# Altium footprint library Connector_USB.PcbLib: 53 footprints (part 2 of 4)
Each footprint in its own frame and in the unit in brackets; x right, y up, seen from the top. Pads: shape width x height; smd on the part's side, far side on the other; paste and mask are expansions set on the pad; w line width, h text height; cw(c..) or ccw(c..) is an arc to the next point about the centre after c.
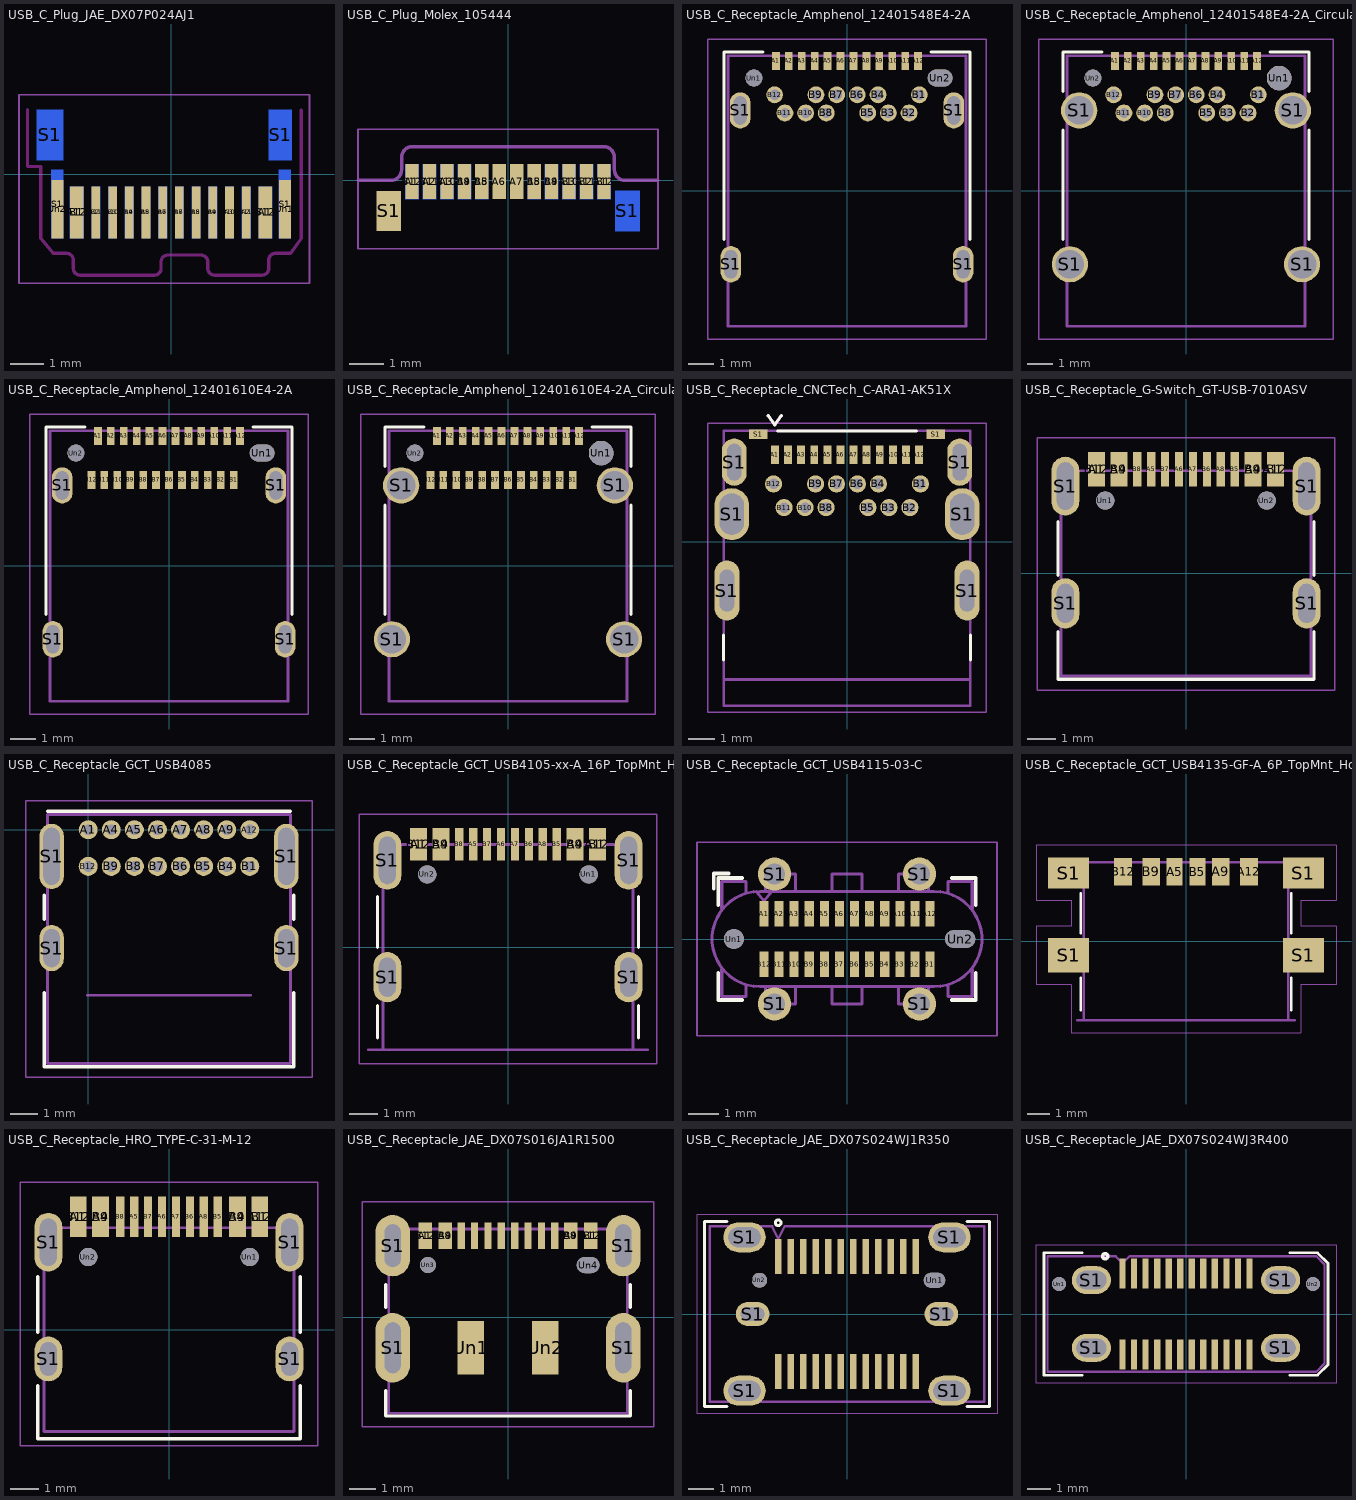
[diagram p1: the footprints below, top view; thin cyan lines are the x and y axes]

## USB_C_Plug_JAE_DX07P024AJ1 [mm]
pads (30):
  rect 0.41x1.55 smd: A1(2.825,-1.148) A12(-2.825,-1.148)
  rect 0.26x1.55 smd: A2(2.25,-1.148) A3(1.75,-1.148) A4(1.25,-1.148) A5(0.75,-1.148) A6(0.25,-1.148) A7(-0.25,-1.148) A8(-0.75,-1.148) A9(-1.25,-1.148) A10(-1.75,-1.148) A11(-2.25,-1.148)
  rect 0.41x1.55 smd far side: B1(-2.825,-1.148) B12(2.825,-1.148)
  rect 0.26x1.55 smd far side: B2(-2.25,-1.148) B3(-1.75,-1.148) B4(-1.25,-1.148) B5(-0.75,-1.148) B6(-0.25,-1.148) B7(0.25,-1.148) B8(0.75,-1.148) B9(1.25,-1.148) B10(1.75,-1.148) B11(2.25,-1.148)
  rect 0.8x1.5 smd far side: S1(-3.625,1.172)
  rect 0.36x2.05 smd far side: S1(-3.405,-0.897) S1(3.405,-0.897)
  rect 0.7x1.5 smd far side: S1(3.27,1.172)
  rect 0.36x1.75 smd: Un1(3.405,-1.048) Un2(-3.405,-1.048)
Edge.Cuts:
  lines w0.1: -4.3,1.93 -4.3,0.228 -3.9,0.228 -3.9,-1.923 -3.53,-2.372 -3.125,-2.372 cw(c-3.125,-2.573) -2.925,-2.573 -2.925,-2.822 ccw(c-2.725,-2.822) -2.725,-3.023 -0.5,-3.023 ccw(c-0.5,-2.822) -0.3,-2.823 -0.3,-2.622 cw(c-0.1,-2.623) -0.1,-2.422 0.9,-2.422 cw(c0.9,-2.623) 1.1,-2.623 1.1,-2.822 ccw(c1.3,-2.822) 1.3,-3.023 2.725,-3.023 ccw(c2.725,-2.822) 2.925,-2.823 2.925,-2.572 cw(c3.125,-2.573) 3.125,-2.372 3.575,-2.372 3.9,-1.923 3.9,1.917
Dwgs.User:
  text "PCB Edge" at -1.748,-3.456 h0.5
B.CrtYd:
  lines w0.05: -4.553,-3.27 -4.553,2.38 4.147,2.38 4.147,-3.27 -4.553,-3.27
F.CrtYd:
  lines w0.05: -4.553,-3.27 4.147,-3.27 4.147,2.38 -4.553,2.38 -4.553,-3.27
F.Fab:
  text "'.Designator'" at -3.023,-1.17 h0.75

## USB_C_Plug_Molex_105444 [mm]
pads (24):
  rect 0.38x1 smd: A1(-2.75,-0.04) A2(-2.25,-0.04) A3(-1.75,-0.04) A4(-1.25,-0.04) A5(-0.75,-0.04) A6(-0.25,-0.04) A7(0.25,-0.04) A8(0.75,-0.04) A9(1.25,-0.04) A10(1.75,-0.04) A11(2.25,-0.04) A12(2.75,-0.04)
  rect 0.38x1 smd far side: B1(2.75,-0.04) B2(2.25,-0.04) B3(1.75,-0.04) B4(1.25,-0.04) B5(0.75,-0.04) B8(-0.75,-0.04) B9(-1.25,-0.04) B10(-1.75,-0.04) B11(-2.25,-0.04) B12(-2.75,-0.04)
  rect 0.7x1.15 smd: S1(-3.42,-0.88)
  rect 0.7x1.15 smd far side: S1(3.42,-0.88)
Dwgs.User:
  text "PCB Edge" at -1.728,0.547 h0.5
F.CrtYd:
  lines w0.05: -4.3,-1.96 4.3,-1.96 4.3,1.46 -4.3,1.46 -4.3,-1.96
F.Fab:
  lines w0.1: -4.3,0 -3.35,0 ccw(c-3.35,0.3) -3.05,0.3 -3.05,0.66 cw(c-2.75,0.66) -2.75,0.96 2.75,0.96 cw(c2.75,0.66) 3.05,0.66 3.05,0.3 ccw(c3.35,0.3) 3.35,0 4.3,0
  text "'.Designator'" at -3.997,-2.83 h1

## USB_C_Receptacle_Amphenol_12401548E4-2A [mm]
pads (30):
  rect 0.3x0.7 smd: A1(-2.75,5.02) A2(-2.25,5.02) A3(-1.75,5.02) A4(-1.25,5.02) A5(-0.75,5.02) A6(-0.25,5.02) A7(0.25,5.02) A8(0.75,5.02) A9(1.25,5.02) A10(1.75,5.02) A11(2.25,5.02) A12(2.75,5.02)
  round 0.65 hole 0.4: B1(2.8,3.71) B2(2.4,3.01) B3(1.6,3.01) B4(1.2,3.71) B5(0.8,3.01) B6(0.4,3.71) B7(-0.4,3.71) B8(-0.8,3.01) B9(-1.2,3.71) B10(-1.6,3.01) B11(-2.4,3.01) B12(-2.8,3.71)
  rrect100% 0.8x1.4 hole 1.1 slot 0.5 at 0 deg: S1(-4.49,-2.84) S1(-4.13,3.11) S1(4.13,3.11) S1(4.49,-2.84)
  round 0.65 hole 0.65: Un1(-3.6,4.36)
  rrect100% 0.95x0.65 hole 0.65 slot 0.95 at 0 deg: Un2(3.6,4.36)
F.SilkS:
  lines w0.12: -4.75,-1.89 -4.75,5.37 -3.25,5.37 ; 3.25,5.37 4.75,5.37 4.75,-1.89
F.CrtYd:
  lines w0.05: -5.39,-5.73 5.39,-5.73 5.39,5.87 -5.39,5.87 -5.39,-5.73
F.Fab:
  lines w0.1: -4.6,-5.23 4.6,-5.23 4.6,5.22 -4.6,5.22 -4.6,-5.23
  text "'.Designator'" at -3.997,-0.79 h1

## USB_C_Receptacle_Amphenol_12401548E4-2A_CircularHoles [mm]
pads (30):
  rect 0.3x0.7 smd: A1(-2.75,5.02) A2(-2.25,5.02) A3(-1.75,5.02) A4(-1.25,5.02) A5(-0.75,5.02) A6(-0.25,5.02) A7(0.25,5.02) A8(0.75,5.02) A9(1.25,5.02) A10(1.75,5.02) A11(2.25,5.02) A12(2.75,5.02)
  round 0.65 hole 0.4: B1(2.8,3.71) B2(2.4,3.01) B3(1.6,3.01) B4(1.2,3.71) B5(0.8,3.01) B6(0.4,3.71) B7(-0.4,3.71) B8(-0.8,3.01) B9(-1.2,3.71) B10(-1.6,3.01) B11(-2.4,3.01) B12(-2.8,3.71)
  round 1.4 hole 1.1: S1(-4.49,-2.84) S1(-4.13,3.11) S1(4.13,3.11) S1(4.49,-2.84)
  round 0.95 hole 0.95: Un1(3.6,4.36)
  round 0.65 hole 0.65: Un2(-3.6,4.36)
F.SilkS:
  lines w0.12: -4.75,-1.89 -4.75,2.35 ; -4.75,3.85 -4.75,5.37 -3.25,5.37 ; 3.25,5.37 4.75,5.37 4.75,3.85 ; 4.75,-1.89 4.75,2.35
F.CrtYd:
  lines w0.05: -5.69,-5.73 5.69,-5.73 5.69,5.87 -5.69,5.87 -5.69,-5.73
F.Fab:
  lines w0.1: -4.6,-5.23 -4.6,5.22 4.6,5.22 4.6,-5.23 -4.6,-5.23
  text "'.Designator'" at -3.997,-0.79 h1

## USB_C_Receptacle_Amphenol_12401610E4-2A [mm]
pads (30):
  rect 0.3x0.7 smd: A1(-2.75,5.02) A2(-2.25,5.02) A3(-1.75,5.02) A4(-1.25,5.02) A5(-0.75,5.02) A6(-0.25,5.02) A7(0.25,5.02) A8(0.75,5.02) A9(1.25,5.02) A10(1.75,5.02) A11(2.25,5.02) A12(2.75,5.02) B1(2.5,3.32) B2(2,3.32) B3(1.5,3.32) B4(1,3.32) B5(0.5,3.32) B6(0,3.32) B7(-0.5,3.32) B8(-1,3.32) B9(-1.5,3.32) B10(-2,3.32) B11(-2.5,3.32) B12(-3,3.32)
  rrect100% 0.8x1.4 hole 1.1 slot 0.5 at 0 deg: S1(-4.49,-2.84) S1(-4.13,3.11) S1(4.13,3.11) S1(4.49,-2.84)
  rrect100% 0.95x0.65 hole 0.65 slot 0.95 at 0 deg: Un1(3.6,4.36)
  round 0.65 hole 0.65: Un2(-3.6,4.36)
F.SilkS:
  lines w0.12: -4.75,-1.89 -4.75,5.37 -3.25,5.37 ; 3.25,5.37 4.75,5.37 4.75,-1.89
F.CrtYd:
  lines w0.05: -5.39,-5.73 -5.39,5.87 5.39,5.87 5.39,-5.73 -5.39,-5.73
F.Fab:
  lines w0.1: -4.6,-5.23 -4.6,5.22 4.6,5.22 4.6,-5.23 -4.6,-5.23
  text "'.Designator'" at -3.997,-0.79 h1

## USB_C_Receptacle_Amphenol_12401610E4-2A_CircularHoles [mm]
pads (30):
  rect 0.3x0.7 smd: A1(-2.75,5.02) A2(-2.25,5.02) A3(-1.75,5.02) A4(-1.25,5.02) A5(-0.75,5.02) A6(-0.25,5.02) A7(0.25,5.02) A8(0.75,5.02) A9(1.25,5.02) A10(1.75,5.02) A11(2.25,5.02) A12(2.75,5.02) B1(2.5,3.32) B2(2,3.32) B3(1.5,3.32) B4(1,3.32) B5(0.5,3.32) B6(0,3.32) B7(-0.5,3.32) B8(-1,3.32) B9(-1.5,3.32) B10(-2,3.32) B11(-2.5,3.32) B12(-3,3.32)
  round 1.4 hole 1.1: S1(-4.49,-2.84) S1(-4.13,3.11) S1(4.13,3.11) S1(4.49,-2.84)
  round 0.95 hole 0.95: Un1(3.6,4.36)
  round 0.65 hole 0.65: Un2(-3.6,4.36)
F.SilkS:
  lines w0.12: -4.75,-1.89 -4.75,2.35 ; -4.75,3.85 -4.75,5.37 -3.25,5.37 ; 3.25,5.37 4.75,5.37 4.75,3.85 ; 4.75,-1.89 4.75,2.35
F.CrtYd:
  lines w0.05: -5.69,-5.73 5.69,-5.73 5.69,5.87 -5.69,5.87 -5.69,-5.73
F.Fab:
  lines w0.1: -4.6,-5.23 -4.6,5.22 4.6,5.22 4.6,-5.23 -4.6,-5.23
  text "'.Designator'" at -3.997,-0.79 h1

## USB_C_Receptacle_CNCTech_C-ARA1-AK51X [mm]
pads (32):
  rect 0.3x0.7 smd: A1(-2.75,3.31) A2(-2.25,3.31) A3(-1.75,3.31) A4(-1.25,3.31) A5(-0.75,3.31) A6(-0.25,3.31) A7(0.25,3.31) A8(0.75,3.31) A9(1.25,3.31) A10(1.75,3.31) A11(2.25,3.31) A12(2.75,3.31)
  round 0.65 hole 0.4: B1(2.8,2.2) B2(2.4,1.3) B3(1.6,1.3) B4(1.2,2.2) B5(0.8,1.3) B6(0.4,2.2) B7(-0.4,2.2) B8(-0.8,1.3) B9(-1.2,2.2) B10(-1.6,1.3) B11(-2.4,1.3) B12(-2.8,2.2)
  rrect100% 0.95x2.28 hole 1.6 slot 0.55 at 0 deg: S1(-4.575,-1.86) S1(4.575,-1.86)
  rrect100% 1.33x1.98 hole 1.58 slot 0.93 at 0 deg: S1(-4.39,1.05) S1(4.39,1.05)
  rrect100% 0.95x1.8 hole 1.4 slot 0.55 at 0 deg: S1(-4.295,3.03) S1(4.295,3.03)
  rect 0.7x0.35 smd: S1(-3.375,4.095) S1(3.375,4.095)
F.SilkS:
  lines w0.12: -4.7,-4.5 -4.7,-3.55 ; -3,4.8 -2.75,4.45 -2.5,4.8 ; -2.65,4.22 2.65,4.22 ; 4.7,-4.5 4.7,-3.55
Dwgs.User:
  lines w0.1: -4.7,-5.25 4.7,-5.25
  text "PCB Edge" at -1.748,-5.273 h0.5
F.CrtYd:
  lines w0.05: -5.31,-6.5 -5.31,4.52 5.31,4.52 5.31,-6.5 -5.31,-6.5
F.Fab:
  lines w0.1: -4.7,-6.25 -4.7,4.22 4.7,4.22 4.7,-6.25 -4.7,-6.25
  lines w0.12: -3,4.8 -2.75,4.45 -2.5,4.8
  text "'.Designator'" at -4.047,-1.84 h1

## USB_C_Receptacle_G-Switch_GT-USB-7010ASV [mm]
pads (22):
  rect 0.6x1.24 smd: A1(-3.2,3.725) A4(-2.4,3.725) A9(2.4,3.725) A12(3.2,3.725) B1(3.2,3.725) B4(2.4,3.725) B9(-2.4,3.725) B12(-3.2,3.725)
  rect 0.3x1.24 smd: A5(-1.25,3.725) A6(-0.25,3.725) A7(0.25,3.725) A8(1.25,3.725) B5(1.75,3.725) B6(0.75,3.725) B7(-0.75,3.725) B8(-1.75,3.725)
  rrect100% 1x1.8 hole 1.4 slot 0.6 at 0 deg: S1(-4.32,-1.075) S1(4.32,-1.075)
  rrect100% 1x2.1 hole 1.7 slot 0.6 at 0 deg: S1(-4.32,3.125) S1(4.32,3.125)
  round 0.65 hole 0.65: Un1(-2.89,2.605) Un2(2.89,2.605)
F.SilkS:
  lines w0.12: -4.58,-2.08 -4.58,-3.785 4.58,-3.785 4.58,-2.08 ; -4.58,-0.07 -4.58,1.85 ; 4.58,-0.07 4.58,1.85
F.CrtYd:
  lines w0.05: -5.32,-4.18 -5.32,4.85 5.32,4.85 5.32,-4.18 -5.32,-4.18
F.Fab:
  lines w0.1: -4.47,-3.675 4.47,-3.675 4.47,3.675 -4.47,3.675 -4.47,-3.675
  text "'.Designator'" at -4.047,-0.84 h1

## USB_C_Receptacle_GCT_USB4085 [mm]
pads (20):
  round 0.7 hole 0.4: A1(0,0) A4(0.85,0) A5(1.7,0) A6(2.55,0) A7(3.4,0) A8(4.25,0) A9(5.1,0) A12(5.95,0) B1(5.95,-1.35) B4(5.1,-1.35) B5(4.25,-1.35) B6(3.4,-1.35) B7(2.55,-1.35) B8(1.7,-1.35) B9(0.85,-1.35) B12(0,-1.35)
  rrect100% 0.9x1.7 hole 1.4 slot 0.6 at 0 deg: S1(-1.35,-4.36) S1(7.3,-4.36)
  rrect100% 0.9x2.4 hole 2.1 slot 0.6 at 0 deg: S1(-1.35,-0.98) S1(7.3,-0.98)
F.SilkS:
  lines w0.12: -1.62,-6 -1.62,-8.73 7.57,-8.73 7.57,-6 ; -1.62,-3.3 -1.62,-2.4 ; -1.5,0.68 7.45,0.68 ; 7.57,-3.3 7.57,-2.4
Dwgs.User:
  text "PCB Edge" at 1.227,-6.533 h0.5
F.CrtYd:
  lines w0.05: -2.3,-9.11 8.25,-9.11 8.25,1.06 -2.3,1.06 -2.3,-9.11
F.Fab:
  lines w0.1: -0.025,-6.1 5.975,-6.1 ; -1.5,-8.61 -1.5,0.56 7.45,0.56 7.45,-8.61 -1.5,-8.61
  text "'.Designator'" at -1.072,-4.865 h1

## USB_C_Receptacle_GCT_USB4105-xx-A_16P_TopMnt_Horizontal [mm]
pads (22):
  rect 0.6x1.15 smd: A1(-3.2,3.68) A4(-2.4,3.68) A9(2.4,3.68) A12(3.2,3.68) B1(3.2,3.68) B4(2.4,3.68) B9(-2.4,3.68) B12(-3.2,3.68)
  rect 0.3x1.15 smd: A5(-1.25,3.68) A6(-0.25,3.68) A7(0.25,3.68) A8(1.25,3.68) B5(1.75,3.68) B6(0.75,3.68) B7(-0.75,3.68) B8(-1.75,3.68)
  rrect100% 1x1.8 hole 1.4 slot 0.6 at 0 deg: S1(-4.32,-1.075) S1(4.32,-1.075)
  rrect100% 1x2.1 hole 1.7 slot 0.6 at 0 deg: S1(-4.32,3.105) S1(4.32,3.105)
  round 0.65 hole 0.65: Un1(2.89,2.605) Un2(-2.89,2.605)
F.SilkS:
  lines w0.12: -4.67,-3.25 -4.67,-2.1 ; -4.67,0 -4.67,1.8 ; 4.67,-3.25 4.67,-2.1 ; 4.67,0 4.67,1.8
Dwgs.User:
  lines w0.1: -5,-3.675 5,-3.675
  text "PCB Edge" at -1.748,-3.533 h0.5
F.CrtYd:
  lines w0.05: -5.32,-4.18 -5.32,4.76 5.32,4.76 5.32,-4.18 -5.32,-4.18
F.Fab:
  lines w0.1: -4.47,-3.675 -4.47,3.675 4.47,3.675 4.47,-3.675 -4.47,-3.675
  text "'.Designator'" at -4.047,-0.84 h1

## USB_C_Receptacle_GCT_USB4115-03-C [mm]
pads (30):
  rect 0.3x0.85 smd: A1(-2.75,0.835) A2(-2.25,0.835) A3(-1.75,0.835) A4(-1.25,0.835) A5(-0.75,0.835) A6(-0.25,0.835) A7(0.25,0.835) A8(0.75,0.835) A9(1.25,0.835) A10(1.75,0.835) A11(2.25,0.835) A12(2.75,0.835) B1(2.75,-0.835) B2(2.25,-0.835) B3(1.75,-0.835) B4(1.25,-0.835) B5(0.75,-0.835) B6(0.25,-0.835) B7(-0.25,-0.835) B8(-0.75,-0.835) B9(-1.25,-0.835) B10(-1.75,-0.835) B11(-2.25,-0.835) B12(-2.75,-0.835)
  round 1.1 hole 0.7: S1(-2.4,-2.15) S1(-2.4,2.15) S1(2.4,-2.15) S1(2.4,2.15)
  round 0.66 hole 0.66: Un1(-3.75,0)
  rrect100% 1x0.58 hole 0.58 slot 1 at 0 deg: Un2(3.75,0)
F.SilkS:
  lines w0.12: -4.42,1.67 -4.42,2.17 -3.92,2.17 ; -4.27,-1.12 -4.27,-2.02 -3.47,-2.02 ; -4.27,1.12 -4.27,2.02 -3.47,2.02 ; 3.47,-2.02 4.27,-2.02 4.27,-1.12 ; 3.47,2.02 4.27,2.02 4.27,1.12
F.CrtYd:
  lines w0.05: -4.97,-3.2 4.97,-3.2 4.97,3.2 -4.97,3.2 -4.97,-3.2
F.Fab:
  lines w0.1: -4.15,-1 -4.15,-1.9 -3.35,-1.9 -3.35,-1.55 ; -4.15,1 -4.15,1.9 -3.35,1.9 -3.35,1.55 ; -3,1.58 -2.75,1.26 -2.5,1.58 ; -2.7,-1.6 -2.7,-2.15 -1.7,-2.15 -1.7,-1.6 ; -2.7,1.6 -2.7,2.15 -1.7,2.15 -1.7,1.6 ; -0.5,-1.6 -0.5,-2.15 0.5,-2.15 0.5,-1.6 ; -0.5,1.6 -0.5,2.15 0.5,2.15 0.5,1.6 ; 1.7,-1.6 1.7,-2.15 2.7,-2.15 2.7,-1.6 ; 1.7,1.6 1.7,2.15 2.7,2.15 2.7,1.6 ; 3.35,-1.55 3.35,-1.9 4.15,-1.9 4.15,-1 ; 3.35,1.55 3.35,1.9 4.15,1.9 4.15,1 ; -2.89,-1.58 2.89,-1.58 ccw(c2.89,0) 2.89,1.58 -2.89,1.58 ccw(c-2.89,0) -2.89,-1.58
  text "'.Designator'" at -4.047,-0.84 h1

## USB_C_Receptacle_GCT_USB4135-GF-A_6P_TopMnt_Horizontal [mm]
pads (10):
  rect 0.7x1.2 smd: A5(-0.5,3.033) B5(0.5,3.033)
  rect 0.76x1.2 smd: A9(1.52,3.033) B9(-1.52,3.033)
  rect 0.8x1.2 smd: A12(2.75,3.033) B12(-2.75,3.033)
  rect 1.8x1.5 smd: S1(-5.125,-0.603) S1(5.125,-0.603)
  rect 1.8x1.35 smd: S1(-5.125,2.977) S1(5.125,2.977)
F.SilkS:
  lines w0.12: -4.6,-3 -4.6,-1.6 ; -4.6,0.347 -4.6,2.103 ; 4.6,-3 4.6,-1.6 ; 4.6,0.347 4.6,2.103
Dwgs.User:
  lines w0.1: -4.75,-3.453 4.75,-3.453
  text "PCB Edge" at -1.748,-3.333 h0.5
F.CrtYd:
  lines w0.05: -6.55,-1.9 -5,-1.9 -5,-4 5,-4 5,-1.9 6.55,-1.9 6.55,0.65 5,0.65 5,1.8 6.55,1.8 6.55,4.2 -6.55,4.2 -6.55,1.8 -5,1.8 -5,0.65 -6.55,0.65 -6.55,-1.9
F.Fab:
  lines w0.1: -4.47,-3.453 -4.47,3.453 4.47,3.453 4.47,-3.453 -4.47,-3.453
  text "'.Designator'" at -4.047,-0.84 h1

## USB_C_Receptacle_HRO_TYPE-C-31-M-12 [mm]
pads (22):
  rect 0.6x1.45 smd: A1(-3.25,4.045) A4(-2.45,4.045) A9(2.45,4.045) A12(3.25,4.045) B1(3.25,4.045) B4(2.45,4.045) B9(-2.45,4.045) B12(-3.25,4.045)
  rect 0.3x1.45 smd: A5(-1.25,4.045) A6(-0.25,4.045) A7(0.25,4.045) A8(1.25,4.045) B5(1.75,4.045) B6(0.75,4.045) B7(-0.75,4.045) B8(-1.75,4.045)
  rrect100% 1x1.6 hole 1.2 slot 0.6 at 0 deg: S1(-4.32,-1.05) S1(4.32,-1.05)
  rrect100% 1x2.1 hole 1.7 slot 0.6 at 0 deg: S1(-4.32,3.13) S1(4.32,3.13)
  round 0.65 hole 0.65: Un1(2.89,2.6) Un2(-2.89,2.6)
F.SilkS:
  lines w0.12: -4.7,-2 -4.7,-3.9 4.7,-3.9 4.7,-2 ; -4.7,-0.1 -4.7,1.9 ; 4.7,-0.1 4.7,1.9
F.CrtYd:
  lines w0.05: -5.32,-4.15 5.32,-4.15 5.32,5.27 -5.32,5.27 -5.32,-4.15
F.Fab:
  lines w0.1: -4.47,-3.65 -4.47,3.65 4.47,3.65 4.47,-3.65 -4.47,-3.65
  text "'.Designator'" at -4.047,-0.84 h1

## USB_C_Receptacle_JAE_DX07S016JA1R1500 [mm]
pads (24):
  rect 0.52x1 smd: A1(-3.1,3.05) A4(-2.35,3.05) A9(2.35,3.05) A12(3.1,3.05) B1(3.1,3.05) B4(2.35,3.05) B9(-2.35,3.05) B12(-3.1,3.05)
  rect 0.27x1 smd: A5(-1.75,3.05) A6(-0.25,3.05) A7(0.75,3.05) A8(1.75,3.05) B5(1.25,3.05) B6(0.25,3.05) B7(-0.75,3.05) B8(-1.25,3.05)
  rrect100% 1.3x2.6 hole 1.9 slot 0.6 at 0 deg: S1(-4.32,-1.15) S1(4.32,-1.15)
  rrect100% 1.3x2.3 hole 1.6 slot 0.6 at 0 deg: S1(-4.32,2.675) S1(4.32,2.675)
  rect 1x2 smd: Un1(-1.4,-1.15) Un2(1.4,-1.15)
  round 0.6 hole 0.6: Un3(-3,1.95)
  rrect100% 0.85x0.6 hole 0.6 slot 0.85 at 0 deg: Un4(3,1.95)
F.SilkS:
  lines w0.12: -4.58,-2.76 -4.58,-3.71 4.58,-3.71 4.58,-2.76 ; -4.58,0.36 -4.58,1.215 ; 4.58,0.36 4.58,1.215
F.CrtYd:
  lines w0.05: -5.47,-4.1 5.47,-4.1 5.47,4.33 -5.47,4.33 -5.47,-4.1
F.Fab:
  lines w0.1: -4.47,-3.6 4.47,-3.6 4.47,3.3 -4.47,3.3 -4.47,-3.6
  text "'.Designator'" at -4.047,-0.84 h1

## USB_C_Receptacle_JAE_DX07S024WJ1R350 [mm]
pads (32):
  rect 0.27x1.4 smd: A1(-2.75,2.3) A2(-2.25,2.3) A3(-1.75,2.3) A4(-1.25,2.3) A5(-0.75,2.3) A6(-0.25,2.3) A7(0.25,2.3) A8(0.75,2.3) A9(1.25,2.3) A10(1.75,2.3) A11(2.25,2.3) A12(2.75,2.3) B1(2.75,-2.3) B2(2.25,-2.3) B3(1.75,-2.3) B4(1.25,-2.3) B5(0.75,-2.3) B6(0.25,-2.3) B7(-0.25,-2.3) B8(-0.75,-2.3) B9(-1.25,-2.3) B10(-1.75,-2.3) B11(-2.25,-2.3) B12(-2.75,-2.3)
  rrect100% 1.7x1.2 hole 1.3 slot 0.8 at 90 deg: S1(-4.1,-3.07) S1(-4.1,3.07) S1(4.1,-3.07) S1(4.1,3.07)
  rrect100% 1.35x0.95 hole 0.95 slot 0.55 at 90 deg: S1(-3.775,0) S1(3.775,0)
  rrect100% 0.85x0.6 hole 0.6 slot 0.85 at 0 deg: Un1(3.5,1.35)
  round 0.6 hole 0.6: Un2(-3.5,1.35)
F.SilkS:
  circle w0.12: c-2.75,3.65 r0.112
  lines w0.12: -4.8,-3.7 -5.7,-3.7 -5.7,3.7 -4.8,3.7 ; 4.8,-3.7 5.7,-3.7 5.7,3.7 4.8,3.7
F.CrtYd:
  lines w0.05: -6,-4 6,-4 6,4 -6,4 -6,-4
F.Fab:
  lines w0.1: -5.5,-3.5 5.5,-3.5 5.5,3.5 -2.5,3.5 -2.75,3 -3,3.5 -5.5,3.5 -5.5,-3.5
  text "'.Designator'" at -3.997,-0.79 h1

## USB_C_Receptacle_JAE_DX07S024WJ3R400 [mm]
pads (30):
  rect 0.27x1.3 smd: A1(-2.75,1.75) A2(-2.25,1.75) A3(-1.75,1.75) A4(-1.25,1.75) A5(-0.75,1.75) A6(-0.25,1.75) A7(0.25,1.75) A8(0.75,1.75) A9(1.25,1.75) A10(1.75,1.75) A11(2.25,1.75) A12(2.75,1.75) B1(2.75,-1.75) B2(2.25,-1.75) B3(1.75,-1.75) B4(1.25,-1.75) B5(0.75,-1.75) B6(0.25,-1.75) B7(-0.25,-1.75) B8(-0.75,-1.75) B9(-1.25,-1.75) B10(-1.75,-1.75) B11(-2.25,-1.75) B12(-2.75,-1.75)
  rrect100% 1.7x1.2 hole 1.3 slot 0.8 at 90 deg: S1(-4.1,-1.47) S1(-4.1,1.47) S1(4.1,-1.47) S1(4.1,1.47)
  round 0.6 hole 0.6: Un1(-5.5,1.3) Un2(5.5,1.3)
F.SilkS:
  circle w0.15: c-3.5,2.5 r0.112
  lines w0.12: -4.5,-2.65 -6.15,-2.65 -6.15,2.65 -4.5,2.65 ; 4.5,-2.65 5.7,-2.65 6.15,-2.2 6.15,2.2 5.7,2.65 4.5,2.65
F.CrtYd:
  lines w0.05: -6.5,-3 -6.5,3 6.5,3 6.5,-3 -6.5,-3
F.Fab:
  lines w0.1: -6,-2.5 -6,2.5 -3.05,2.5 -2.75,2.2 -2.45,2.5 5.65,2.5 6,2.15 6,-2.15 5.65,-2.5 -6,-2.5
  text "'.Designator'" at -3.997,-0.79 h1